# EAGLE library part HP03S (library hopeRF)
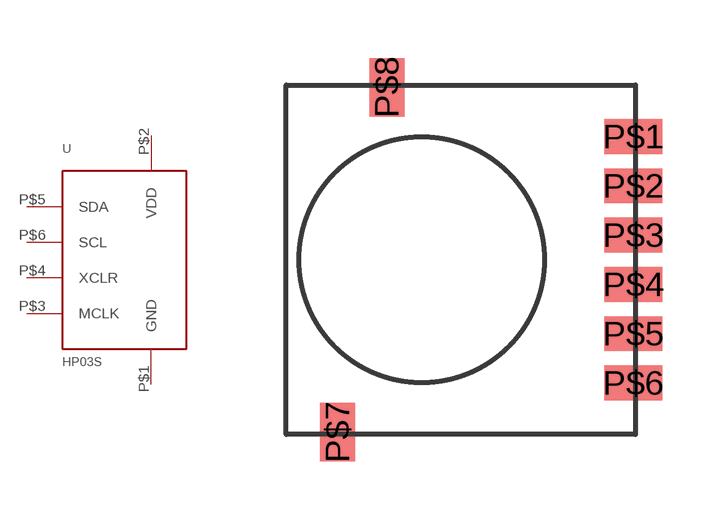
[diagram p3: symbol with the pads of HP03S; footprint HP03S]

Designator prefix -

## HP03S  [HP03S]
P$1  GND  pwr
P$2  VDD  pwr
P$3  MCLK
P$4  XCLR
P$5  SDA
P$6  SCL

## Footprint HP03S (pad centres in mm)
smd 1.5 x 0.9: P$1 4.445,3.175; P$2 4.445,1.905; P$3 4.445,0.635; P$4 4.445,-0.635; P$5 4.445,-1.905; P$6 4.445,-3.175
smd 0.9 x 1.5: P$7 -3.175,-4.445; P$8 -1.905,4.445